# EAGLE library part XMOS_AVB_BRD_V4_0826-1X1T-KL-F_0826-1X1T-KL-F (library xmos_avb_brd_V4)
Conn RJ-45 F 8 POS 1.02mm Solder RA Thru-Hole 20 Terminal 1 Port MagJack Tray Source: Datasheet <https://componentsearchengine.com/Datasheets/2/0826-1X1T-KL-F.pdf>
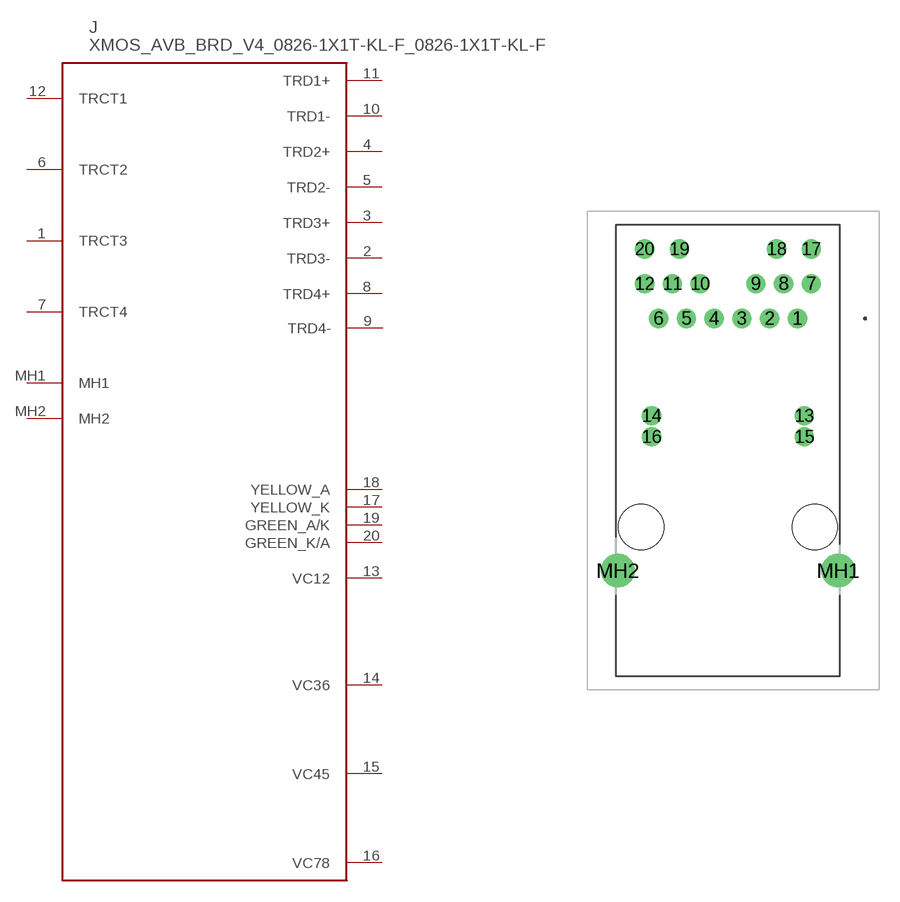
[diagram p1: symbol with the pads of XMOS_AVB_BRD_V4_0826-1X1T-KL-F_08261X1TKLF; footprint XMOS_AVB_BRD_V4_0826-1X1T-KL-F_08261X1TKLF]

Designator prefix J

## XMOS_AVB_BRD_V4_0826-1X1T-KL-F_0826-1X1T-KL-F (DESCRIPTION: Conn RJ-45 F 8 POS 1.02mm Solder RA Thru-Hole 20 Terminal 1 Port MagJack Tray; HEIGHT: 13.61mm; MANUFACTURER_NAME: Bel Magnetic Solutions; MANUFACTURER_PART_NUMBER: 0826-1X1T-KL-F; MOUSER_PART_NUMBER: 530-0826-1X1T-KL-F; MOUSER_PRICE-STOCK: https://www.mouser.co.uk/ProductDetail/Bel-Magnetic-Solutions/0826-1X1T-KL-F?qs=wnTfsH77Xs6Vloaw6rcFYA%3D%3D)  [XMOS_AVB_BRD_V4_0826-1X1T-KL-F_08261X1TKLF]
1  TRCT3
2  TRD3-
3  TRD3+
4  TRD2+
5  TRD2-
6  TRCT2
7  TRCT4
8  TRD4+
9  TRD4-
10  TRD1-
11  TRD1+
12  TRCT1
13  VC12
14  VC36
15  VC45
16  VC78
17  YELLOW_K
18  YELLOW_A
19  GREEN_A/K
20  GREEN_K/A
MH1  MH1
MH2  MH2

## Footprint XMOS_AVB_BRD_V4_0826-1X1T-KL-F_08261X1TKLF (pad centres in mm)
0826-1X1T-KL-F-1
drill 0.9 pad 1.27: 1 5.08,15.24; 2 3.048,15.24; 3 1.016,15.24; 4 -1.016,15.24; 5 -3.048,15.24; 6 -5.08,15.24; 7 6.096,17.78; 8 4.064,17.78; 9 2.032,17.78; 10 -2.032,17.78; 11 -4.064,17.78; 12 -6.096,17.78; 13 5.59,8.13; 14 -5.59,8.13; 15 5.59,6.59; 16 -5.59,6.59; 17 6.096,20.32; 18 3.556,20.32; 19 -3.556,20.32; 20 -6.096,20.32
drill 1.65 pad 2.475: MH1 8.065,-3.18; MH2 -8.065,-3.18
hole 3.3 at 6.35,0
hole 3.3 at -6.35,0